# EAGLE library part ADMV1013 (library Analog Devices)
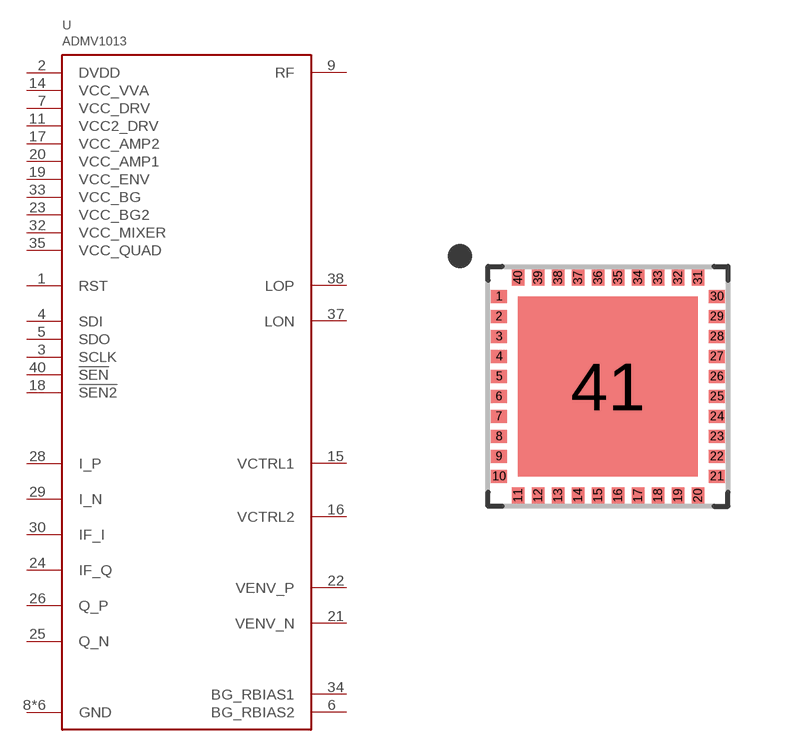
[diagram p58: symbol with the pads of LGA40; footprint LGA40]

Designator prefix U

## ADMV1013  [LGA40]
1  RST  in
2  DVDD  sup
3  SCLK  in
4  SDI  in
5  SDO  out
6  BG_RBIAS2
7  VCC_DRV  sup
8  GND
9  RF  in
10  GND
11  VCC2_DRV  sup
14  VCC_VVA  sup
15  VCTRL1  in
16  VCTRL2  in
17  VCC_AMP2  sup
18  !SEN2  in
19  VCC_ENV  sup
20  VCC_AMP1  sup
21  VENV_N  in
22  VENV_P  in
23  VCC_BG2  sup
24  IF_Q  in
25  Q_N  in
26  Q_P  in
27  GND
28  I_P  in
29  I_N  in
30  IF_I  in
32  VCC_MIXER  sup
33  VCC_BG  sup
34  BG_RBIAS1
35  VCC_QUAD  sup
36  GND
37  LON  in
38  LOP  in
39  GND
40  !SEN  in
41  GND

## Footprint LGA40 (pad centres in mm)
smd 0.4 x 0.32: 1 -2.725,2.25; 2 -2.725,1.75; 3 -2.725,1.25; 4 -2.725,0.75; 5 -2.725,0.25; 6 -2.725,-0.25; 7 -2.725,-0.75; 8 -2.725,-1.25; 9 -2.725,-1.75; 10 -2.725,-2.25; 21 2.725,-2.25; 22 2.725,-1.75; 23 2.725,-1.25; 24 2.725,-0.75; 25 2.725,-0.25; 26 2.725,0.25; 27 2.725,0.75; 28 2.725,1.25; 29 2.725,1.75; 30 2.725,2.25
smd 0.32 x 0.4: 11 -2.25,-2.725; 12 -1.75,-2.725; 13 -1.25,-2.725; 14 -0.75,-2.725; 15 -0.25,-2.725; 16 0.25,-2.725; 17 0.75,-2.725; 18 1.25,-2.725; 19 1.75,-2.725; 20 2.25,-2.725; 31 2.25,2.725; 32 1.75,2.725; 33 1.25,2.725; 34 0.75,2.725; 35 0.25,2.725; 36 -0.25,2.725; 37 -0.75,2.725; 38 -1.25,2.725; 39 -1.75,2.725; 40 -2.25,2.725
smd 4.5 x 4.5: 41 0,0